# EAGLE library part QSE80 (library fcounter)
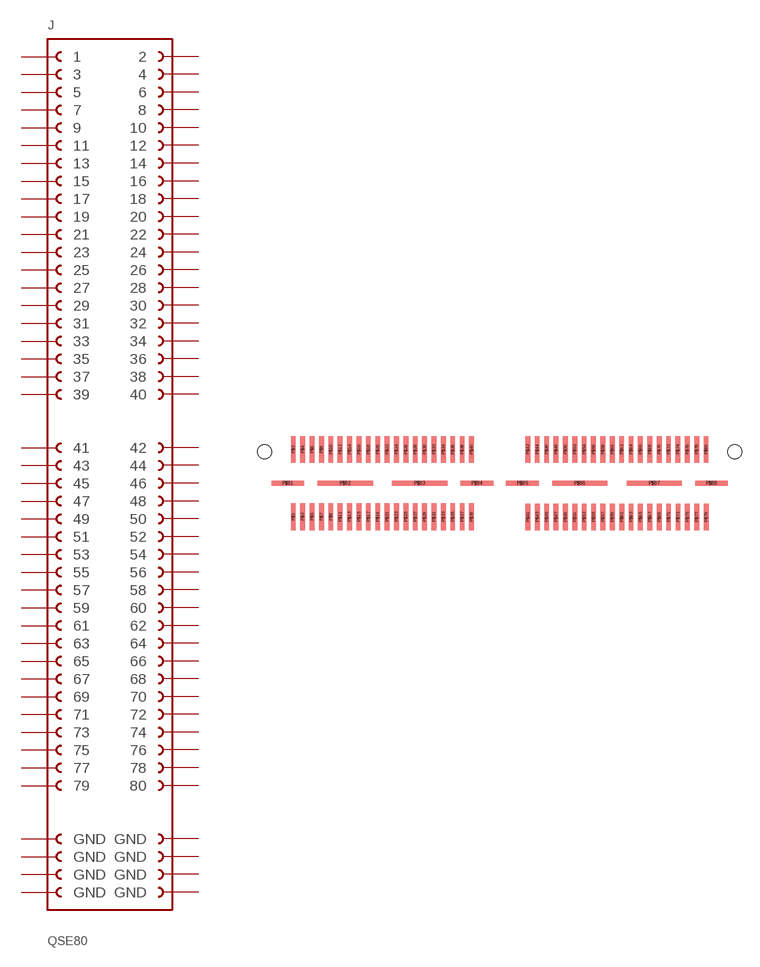
[diagram p6: symbol with the pads of QSE80; footprint QSE80]

Designator prefix J

## QSE80  [QSE80]
P$1  1
P$2  2
P$3  3
P$4  4
P$5  5
P$6  6
P$7  7
P$8  8
P$9  9
P$10  10
P$11  11
P$12  12
P$13  13
P$14  14
P$15  15
P$16  16
P$17  17
P$18  18
P$19  19
P$20  20
P$21  21
P$22  22
P$23  23
P$24  24
P$25  25
P$26  26
P$27  27
P$28  28
P$29  29
P$30  30
P$31  31
P$32  32
P$33  33
P$34  34
P$35  35
P$36  36
P$37  37
P$38  38
P$39  39
P$40  40
P$41  41
P$42  42
P$43  43
P$44  44
P$45  45
P$46  46
P$47  47
P$48  48
P$49  49
P$50  50
P$51  51
P$52  52
P$53  53
P$54  54
P$55  55
P$56  56
P$57  57
P$58  58
P$59  59
P$60  60
P$61  61
P$62  62
P$63  63
P$64  64
P$65  65
P$66  66
P$67  67
P$68  68
P$69  69
P$70  70
P$71  71
P$72  72
P$73  73
P$74  74
P$75  75
P$76  76
P$77  77
P$78  78
P$79  79
P$80  80
P$81  GND  pwr
P$82  GND  pwr
P$83  GND  pwr
P$84  GND  pwr
P$85  GND  pwr
P$86  GND  pwr
P$87  GND  pwr
P$88  GND  pwr

## Footprint QSE80 (pad centres in mm)
smd 0.41 x 2.27: P$1 -17.6,-2.87; P$2 -17.6,2.865; P$3 -16.8,-2.87; P$4 -16.8,2.865; P$5 -16,-2.87; P$6 -16,2.865; P$7 -15.2,-2.87; P$8 -15.2,2.865; P$9 -14.4,-2.87; P$10 -14.4,2.865; P$11 -13.6,-2.87; P$12 -13.6,2.865; P$13 -12.8,-2.87; P$14 -12.8,2.865; P$15 -12,-2.87; P$16 -12,2.865; P$17 -11.2,-2.87; P$18 -11.2,2.865; P$19 -10.4,-2.87; P$20 -10.4,2.865; P$21 -9.6,-2.87; P$22 -9.6,2.865; P$23 -8.8,-2.87; P$24 -8.8,2.865; P$25 -8,-2.87; P$26 -8,2.865; P$27 -7.2,-2.87; P$28 -7.2,2.865; P$29 -6.4,-2.87; P$30 -6.4,2.865; P$31 -5.6,-2.87; P$32 -5.6,2.865; P$33 -4.8,-2.87; P$34 -4.8,2.865; P$35 -4,-2.87; P$36 -4,2.865; P$37 -3.2,-2.87; P$38 -3.2,2.865; P$39 -2.4,-2.87; P$40 -2.4,2.865; P$41 2.405,-2.89; P$42 2.4,2.87; P$43 3.205,-2.89; P$44 3.2,2.87; P$45 4.005,-2.89; P$46 4,2.87; P$47 4.805,-2.89; P$48 4.8,2.87; P$49 5.605,-2.89; P$50 5.6,2.87; P$51 6.405,-2.89; P$52 6.4,2.87; P$53 7.205,-2.89; P$54 7.2,2.87; P$55 8.005,-2.89; P$56 8,2.87; P$57 8.805,-2.89; P$58 8.8,2.87; P$59 9.605,-2.89; P$60 9.6,2.87; P$61 10.405,-2.89; P$62 10.4,2.87; P$63 11.205,-2.89; P$64 11.2,2.87; P$65 12.005,-2.89; P$66 12,2.87; P$67 12.805,-2.89; P$68 12.8,2.87; P$69 13.605,-2.89; P$70 13.6,2.87; P$71 14.405,-2.89; P$72 14.4,2.87; P$73 15.205,-2.89; P$74 15.2,2.87; P$75 16.005,-2.89; P$76 16,2.87; P$77 16.805,-2.89; P$78 16.8,2.87; P$79 17.605,-2.89; P$80 17.6,2.87
smd 2.79 x 0.43: P$81 -18.06,0; P$84 -1.93,0; P$85 1.94,0; P$88 18.07,0
smd 4.7 x 0.43: P$82 -13.17,0; P$83 -6.82,0; P$86 6.83,0; P$87 13.18,0
hole 1.19 at -20.06,2.665
hole 1.19 at 20.06,2.67